# Altium schematic symbol library SnapEDAsch.SchLib: 2 symbols
Pins are listed as number, name and electrical type; pins without a type are passive.

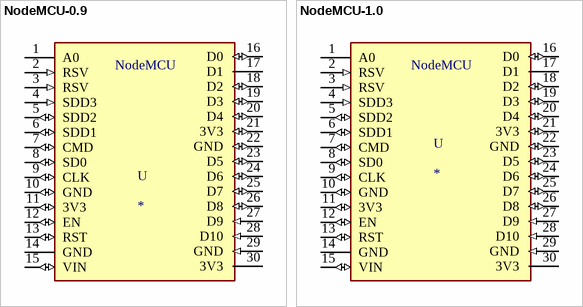
[diagram p0: symbols NodeMCU-0.9 to NodeMCU-1.0]

## NodeMCU-0.9
designator U
NodeMCU ESP8266; MF: Espressif Systems; Name: NodeMCU-0.9; Package: None; Price: None; Availability: Unavailable; MP: ESP8266; SnapEDA_Link: https://www.snapeda.com/parts/ESP32-DEVKITC-32D/Espressif%20Systems/view-part/2777395/?ref=snap
footprint NodeMCU_ESP8266
pins: 1 A0 (power), 2 RSV (in), 3 RSV (in), 4 SDD3 (in), 5 SDD2 (io), 6 SDD1 (io), 7 CMD (io), 8 SD0 (io), 9 CLK (io), 10 GND (io), 11 3V3 (io), 12 EN (io), 13 RST (io), 14 GND (power), 15 VIN (io), 16 D0 (io), 17 D1 (power), 18 D2 (io), 19 D3 (io), 20 D4 (io), 21 3V3 (io), 22 GND (io), 23 D5 (io), 24 D6 (io), 25 D7 (io), 26 D8 (io), 27 D9 (in), 28 D10 (in), 29 GND (in), 30 3V3 (power)
text: NodeMCU

## NodeMCU-1.0
designator U
NodeMCU version 1.0
footprint NodeMCU_ESP8266
pins: 1 A0 (power), 2 RSV (in), 3 RSV (in), 4 SDD3 (in), 5 SDD2 (io), 6 SDD1 (io), 7 CMD (io), 8 SD0 (io), 9 CLK (io), 10 GND (io), 11 3V3 (io), 12 EN (io), 13 RST (io), 14 GND (power), 15 VIN (io), 16 D0 (io), 17 D1 (power), 18 D2 (io), 19 D3 (io), 20 D4 (io), 21 3V3 (io), 22 GND (io), 23 D5 (io), 24 D6 (io), 25 D7 (io), 26 D8 (io), 27 D9 (in), 28 D10 (in), 29 GND (in), 30 3V3 (power)
text: NodeMCU